# EAGLE library part SDREADER (library SDREADER)
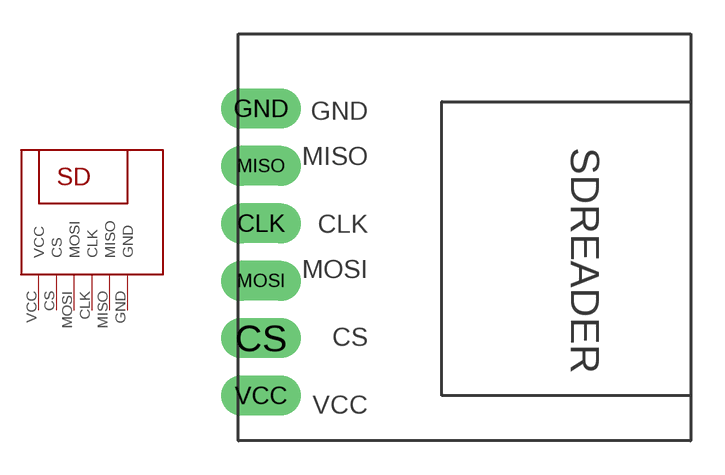
[diagram p0: symbol with the pads of SDREADER; footprint SDREADER]

Designator prefix -

## SDREADER  [SDREADER]
CLK  CLK
CS  CS
GND  GND
MISO  MISO
MOSI  MOSI
VCC  VCC

## Footprint SDREADER (pad centres in mm)
drill 0.8 pad 1.778 long: CLK 1,9.62; CS 1,4.54; GND 1,14.7; MISO 1,12.16; MOSI 1,7.08; VCC 1,2